# EAGLE library part 320LF2406 (library texas_dsp)
DSP
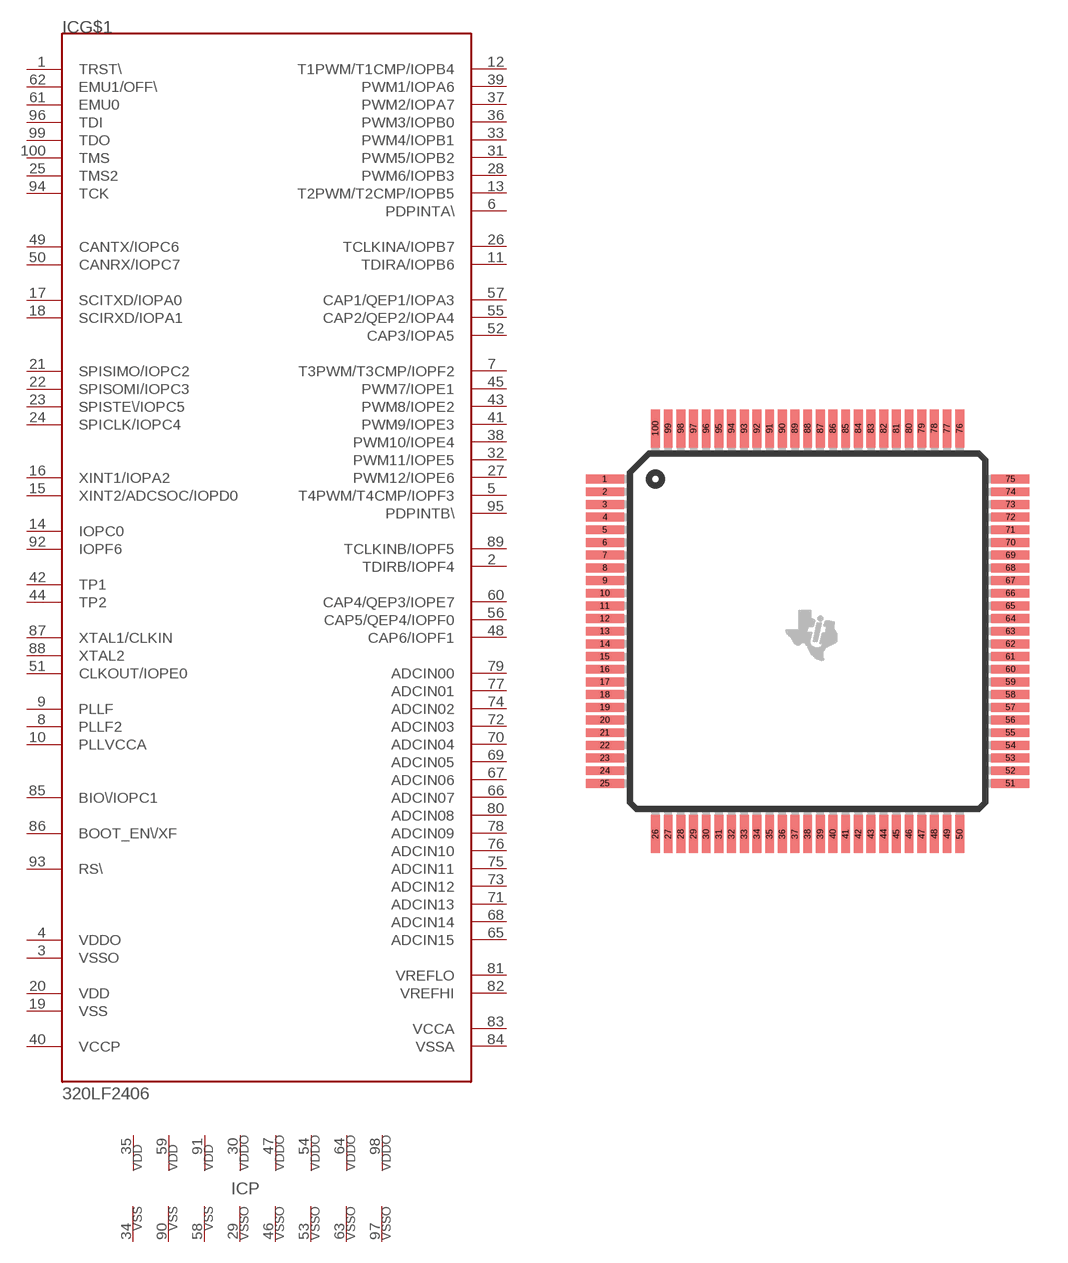
[diagram p0: symbol with the pads of TQFP100; footprint TQFP100]

Designator prefix IC; gates G$1=LF2406 P=LF2406_PWR

## 320LF2406  [TQFP100]
1  G$1:TRST\
2  G$1:TDIRB/IOPF4
3  G$1:VSSO  pwr
4  G$1:VDDO  pwr
5  G$1:T4PWM/T4CMP/IOPF3
6  G$1:PDPINTA\
7  G$1:T3PWM/T3CMP/IOPF2
8  G$1:PLLF2
9  G$1:PLLF
10  G$1:PLLVCCA
11  G$1:TDIRA/IOPB6
12  G$1:T1PWM/T1CMP/IOPB4
13  G$1:T2PWM/T2CMP/IOPB5
14  G$1:IOPC0
15  G$1:XINT2/ADCSOC/IOPD0
16  G$1:XINT1/IOPA2
17  G$1:SCITXD/IOPA0
18  G$1:SCIRXD/IOPA1
19  G$1:VSS  pwr
20  G$1:VDD  pwr
21  G$1:SPISIMO/IOPC2
22  G$1:SPISOMI/IOPC3
23  G$1:SPISTE\/IOPC5
24  G$1:SPICLK/IOPC4
25  G$1:TMS2
26  G$1:TCLKINA/IOPB7
27  G$1:PWM12/IOPE6
28  G$1:PWM6/IOPB3
29  P:VSSO$0  pwr
30  P:VDDO$0  pwr
31  G$1:PWM5/IOPB2
32  G$1:PWM11/IOPE5
33  G$1:PWM4/IOPB1
34  P:VSS$0  pwr
35  P:VDD$0  pwr
36  G$1:PWM3/IOPB0
37  G$1:PWM2/IOPA7
38  G$1:PWM10/IOPE4
39  G$1:PWM1/IOPA6
40  G$1:VCCP  pwr
41  G$1:PWM9/IOPE3
42  G$1:TP1
43  G$1:PWM8/IOPE2
44  G$1:TP2
45  G$1:PWM7/IOPE1
46  P:VSSO$1  pwr
47  P:VDDO$1  pwr
48  G$1:CAP6/IOPF1
49  G$1:CANTX/IOPC6
50  G$1:CANRX/IOPC7
51  G$1:CLKOUT/IOPE0
52  G$1:CAP3/IOPA5
53  P:VSSO$2  pwr
54  P:VDDO$2  pwr
55  G$1:CAP2/QEP2/IOPA4
56  G$1:CAP5/QEP4/IOPF0
57  G$1:CAP1/QEP1/IOPA3
58  P:VSS$1  pwr
59  P:VDD$1  pwr
60  G$1:CAP4/QEP3/IOPE7
61  G$1:EMU0
62  G$1:EMU1/OFF\
63  P:VSSO$3  pwr
64  P:VDDO$3  pwr
65  G$1:ADCIN15  in
66  G$1:ADCIN07  in
67  G$1:ADCIN06  in
68  G$1:ADCIN14  in
69  G$1:ADCIN05  in
70  G$1:ADCIN04  in
71  G$1:ADCIN13  in
72  G$1:ADCIN03  in
73  G$1:ADCIN12  in
74  G$1:ADCIN02  in
75  G$1:ADCIN11  in
76  G$1:ADCIN10  in
77  G$1:ADCIN01  in
78  G$1:ADCIN09  in
79  G$1:ADCIN00  in
80  G$1:ADCIN08  in
81  G$1:VREFLO  pwr
82  G$1:VREFHI  pwr
83  G$1:VCCA  pwr
84  G$1:VSSA  pwr
85  G$1:BIO\/IOPC1
86  G$1:BOOT_EN\/XF
87  G$1:XTAL1/CLKIN
88  G$1:XTAL2
89  G$1:TCLKINB/IOPF5
90  P:VSS$2  pwr
91  P:VDD$2  pwr
92  G$1:IOPF6
93  G$1:RS\
94  G$1:TCK
95  G$1:PDPINTB\
96  G$1:TDI
97  P:VSSO$4  pwr
98  P:VDDO$4  pwr
99  G$1:TDO
100  G$1:TMS

## Footprint TQFP100 (pad centres in mm)
smd 1.5 x 0.35: 1 -8,6; 2 -8,5.5; 3 -8,5; 4 -8,4.5; 5 -8,4; 6 -8,3.5; 7 -8,3; 8 -8,2.5; 9 -8,2; 10 -8,1.5; 11 -8,1; 12 -8,0.5; 13 -8,0; 14 -8,-0.5; 15 -8,-1; 16 -8,-1.5; 17 -8,-2; 18 -8,-2.5; 19 -8,-3; 20 -8,-3.5; 21 -8,-4; 22 -8,-4.5; 23 -8,-5; 24 -8,-5.5; 25 -8,-6; 51 8,-6; 52 8,-5.5; 53 8,-5; 54 8,-4.5; 55 8,-4; 56 8,-3.5; 57 8,-3; 58 8,-2.5; 59 8,-2; 60 8,-1.5; 61 8,-1; 62 8,-0.5; 63 8,0; 64 8,0.5; 65 8,1; 66 8,1.5; 67 8,2; 68 8,2.5; 69 8,3; 70 8,3.5; 71 8,4; 72 8,4.5; 73 8,5; 74 8,5.5; 75 8,6
smd 0.35 x 1.5: 26 -6,-8; 27 -5.5,-8; 28 -5,-8; 29 -4.5,-8; 30 -4,-8; 31 -3.5,-8; 32 -3,-8; 33 -2.5,-8; 34 -2,-8; 35 -1.5,-8; 36 -1,-8; 37 -0.5,-8; 38 0,-8; 39 0.5,-8; 40 1,-8; 41 1.5,-8; 42 2,-8; 43 2.5,-8; 44 3,-8; 45 3.5,-8; 46 4,-8; 47 4.5,-8; 48 5,-8; 49 5.5,-8; 50 6,-8; 76 6,8; 77 5.5,8; 78 5,8; 79 4.5,8; 80 4,8; 81 3.5,8; 82 3,8; 83 2.5,8; 84 2,8; 85 1.5,8; 86 1,8; 87 0.5,8; 88 0,8; 89 -0.5,8; 90 -1,8; 91 -1.5,8; 92 -2,8; 93 -2.5,8; 94 -3,8; 95 -3.5,8; 96 -4,8; 97 -4.5,8; 98 -5,8; 99 -5.5,8; 100 -6,8